# Altium footprint library SnapEDApcb.PcbLib: 1 footprints
Each footprint in its own frame and in the unit in brackets; x right, y up, seen from the top. Pads: shape width x height; smd on the part's side, far side on the other; paste and mask are expansions set on the pad; w line width, h text height; cw(c..) or ccw(c..) is an arc to the next point about the centre after c.
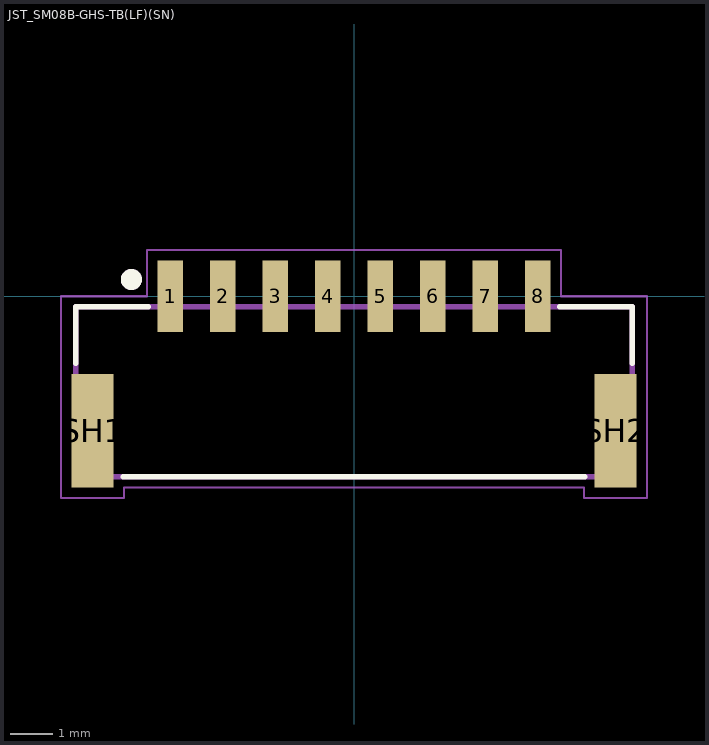
[diagram p0: the footprint, top view; thin cyan lines are the x and y axes]

## JST_SM08B-GHS-TB(LF)(SN) [mm]
pads (10):
  rect 0.6x1.7 smd: 1(-4.375,0) 2(-3.125,0) 3(-1.875,0) 4(-0.625,0) 5(0.625,0) 6(1.875,0) 7(3.125,0) 8(4.375,0)
  rect 1x2.7 smd: SH1(-6.225,-3.2) SH2(6.225,-3.2)
Top Overlay:
  circle w0.3: c-5.3,0.4 r0.1
  lines w0.127: -6.625,-1.6 -6.625,-0.25 -4.9,-0.25 ; -5.5,-4.3 5.5,-4.3 ; 4.9,-0.25 6.625,-0.25 6.625,-1.6
Mechanical 13:
  circle w0.3: c-5.3,0.4 r0.1
  lines w0.127: -6.625,-4.3 6.625,-4.3 6.625,-0.25 -6.625,-0.25 -6.625,-4.3
Mechanical 15:
  lines w0.05: -6.975,-4.8 -5.475,-4.8 -5.475,-4.55 5.475,-4.55 5.475,-4.8 6.975,-4.8 6.975,0 4.925,0 4.925,1.1 -4.925,1.1 -4.925,0 -6.975,0 -6.975,-4.8